# Altium schematic symbol library HLib_discrete_sch.SchLib: 4 symbols
Pins are listed as number, name and electrical type; pins without a type are passive.

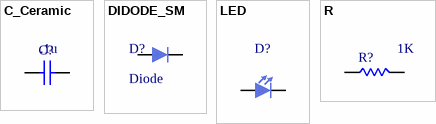
[diagram p0: symbols C_Ceramic to R]

## C_Ceramic
designator C?  value .1u  (hidden comment: C_Ceramic)
Non-polarity ceramic capacitor; Published: 8-Jun-2000; LatestRevisionDate: 17-Jul-2002; LatestRevisionNote: Re-released for DXP Platform.; PackageReference: RAD-0.3; Publisher: Altium Limited; PackageDescription: Radial Cap, Thru-Hole; 2 Leads; 0.3 in Pin Spacing
footprint SM_0805_C_CERAMIC (General Surface-mount cap, low density)
pins: 1, 2

## DIDODE_SM
designator D?, comment Diode
Diode Polarized SM
footprint SM_0805_DIODE (General polarized surface-mount diode, low density)
pins: 1 A, 2 K

## LED
designator D?  (value not drawn)
Published: 8-Jun-2000; LatestRevisionDate: 08-Jul-2005; LatestRevisionNote: Mech Layer 1 removed.; PackageReference: LED-1; Publisher: Altium Limited; PackageDescription: LED; 2 Leads
footprint SM_0805_LED (General polarized surface-mount Led, low density)
pins: 1 A, 2 K

## R
designator R?  value 1K  (hidden comment: R)
Resistor; Published: 8-Jun-2000; LatestRevisionDate: 29-May-2009; LatestRevisionNote: IPC-7351 Footprint Added.; PackageReference: J1-0603; Publisher: Altium Limited; PackageDescription: Chip Resistor
footprint SM_0805_R (General Surface-mount resistor, low density)
pins: 1, 2